# EAGLE library part AK5385 (library akm)
Audio ADC 114dB, 192kHz, 24-Bit, 2ch, Delta Sigma
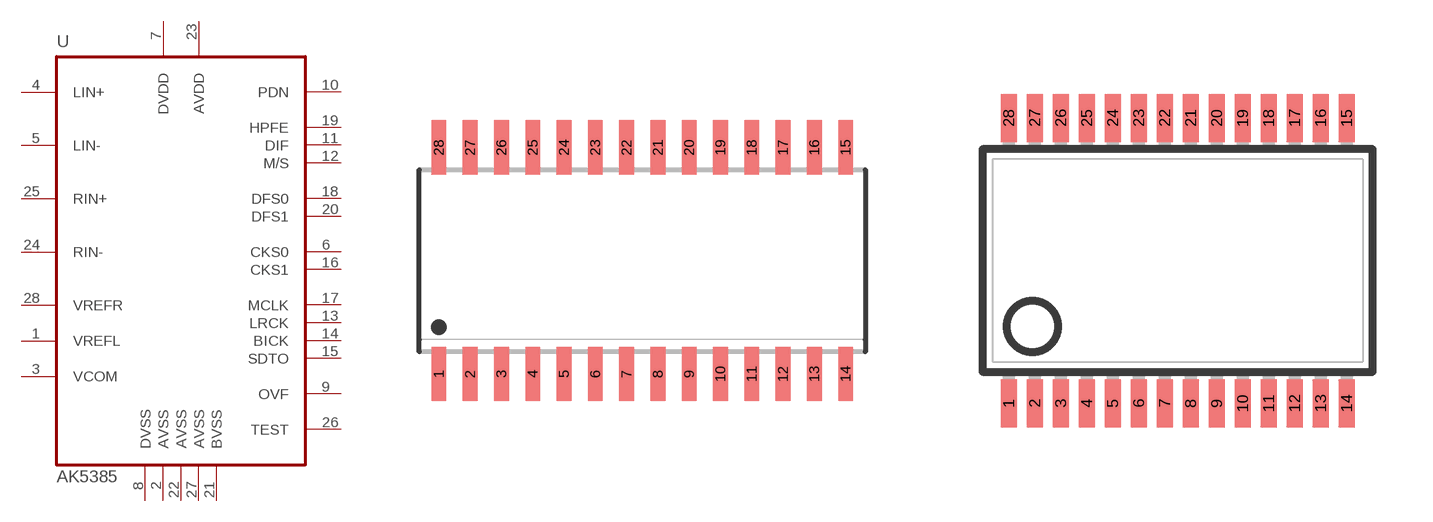
[diagram p19: symbol with the pads of SO28W; footprints SO28W, VSOP28]

Designator prefix U

## AK5385AVS  [SO28W]
1  VREFL  out
2  AVSS  pwr
3  VCOM  out
4  LIN+  in
5  LIN-  in
6  CKS0  in
7  DVDD  pwr
8  DVSS  pwr
9  OVF  out
10  PDN  in
11  DIF  in
12  M/S  in
13  LRCK
14  BICK
15  SDTO  out
16  CKS1  in
17  MCLK  in
18  DFS0  in
19  HPFE  in
20  DFS1  in
21  BVSS  pwr
22  AVSS1  pwr
23  AVDD  pwr
24  RIN-  in
25  RIN+  in
26  TEST  in
27  AVSS2  pwr
28  VREFR  out

## AK5385AVF  [VSOP28]
Pads as for SO28W

## Footprint SO28W (pad centres in mm)
SMALL OUTLINE INTEGRATED CIRCUIT wide body 7.5 mm/JEDEC MO-119AB
smd 0.6 x 2.2: 1 -8.255,-4.6; 2 -6.985,-4.6; 3 -5.715,-4.6; 4 -4.445,-4.6; 5 -3.175,-4.6; 6 -1.905,-4.6; 7 -0.635,-4.6; 8 0.635,-4.6; 9 1.905,-4.6; 10 3.175,-4.6; 11 4.445,-4.6; 12 5.715,-4.6; 13 6.985,-4.6; 14 8.255,-4.6; 15 8.255,4.6; 16 6.985,4.6; 17 5.715,4.6; 18 4.445,4.6; 19 3.175,4.6; 20 1.905,4.6; 21 0.635,4.6; 22 -0.635,4.6; 23 -1.905,4.6; 24 -3.175,4.6; 25 -4.445,4.6; 26 -5.715,4.6; 27 -6.985,4.6; 28 -8.255,4.6

## Footprint VSOP28 (pad centres in mm)
VSOP28 9.8 x 5.6 mm, pitch .65 mm
smd 0.4 x 1.2: 1 -4.225,-3.57; 2 -3.575,-3.57; 3 -2.925,-3.57; 4 -2.275,-3.57; 5 -1.625,-3.57; 6 -0.975,-3.57; 7 -0.325,-3.57; 8 0.325,-3.57; 9 0.975,-3.57; 10 1.625,-3.57; 11 2.275,-3.57; 12 2.925,-3.57; 13 3.575,-3.57; 14 4.225,-3.57; 15 4.225,3.57; 16 3.575,3.57; 17 2.925,3.57; 18 2.275,3.57; 19 1.625,3.57; 20 0.975,3.57; 21 0.325,3.57; 22 -0.325,3.57; 23 -0.975,3.57; 24 -1.625,3.57; 25 -2.275,3.57; 26 -2.925,3.57; 27 -3.575,3.57; 28 -4.225,3.57